# EAGLE library part ADUM1441 (library si84xx)
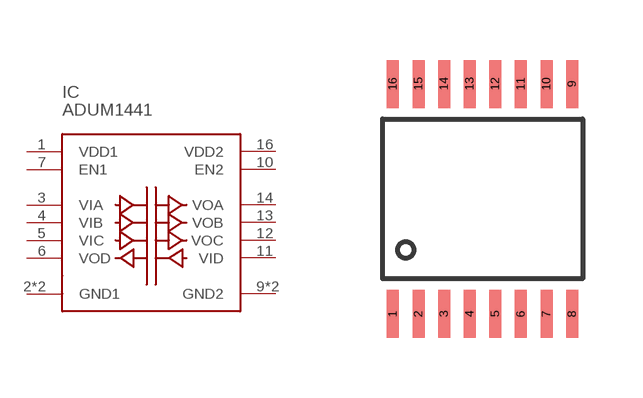
[diagram p1: symbol with the pads of QSOP16; footprint QSOP16]

Designator prefix IC

## ADUM1441  [QSOP16]
1  VDD1
2  GND1
3  VIA
4  VIB
5  VIC
6  VOD
7  EN1
8  GND1
9  GND2
10  EN2
11  VID
12  VOC
13  VOB
14  VOA
15  GND2
16  VDD2

## Footprint QSOP16 (pad centres in mm)
smd 0.3 x 1.2: 1 -2.24,-2.88; 2 -1.6,-2.88; 3 -0.96,-2.88; 4 -0.32,-2.88; 5 0.32,-2.88; 6 0.96,-2.88; 7 1.6,-2.88; 8 2.24,-2.88; 9 2.24,2.88; 10 1.6,2.88; 11 0.96,2.88; 12 0.32,2.88; 13 -0.32,2.88; 14 -0.96,2.88; 15 -1.6,2.88; 16 -2.24,2.88